# Altium footprint library Capacitor Electrolytic Axial.PcbLib: 19 footprints (part 1 of 2)
Each footprint in its own frame and in the unit in brackets; x right, y up, seen from the top. Pads: shape width x height; smd on the part's side, far side on the other; paste and mask are expansions set on the pad; w line width, h text height; cw(c..) or ccw(c..) is an arc to the next point about the centre after c.
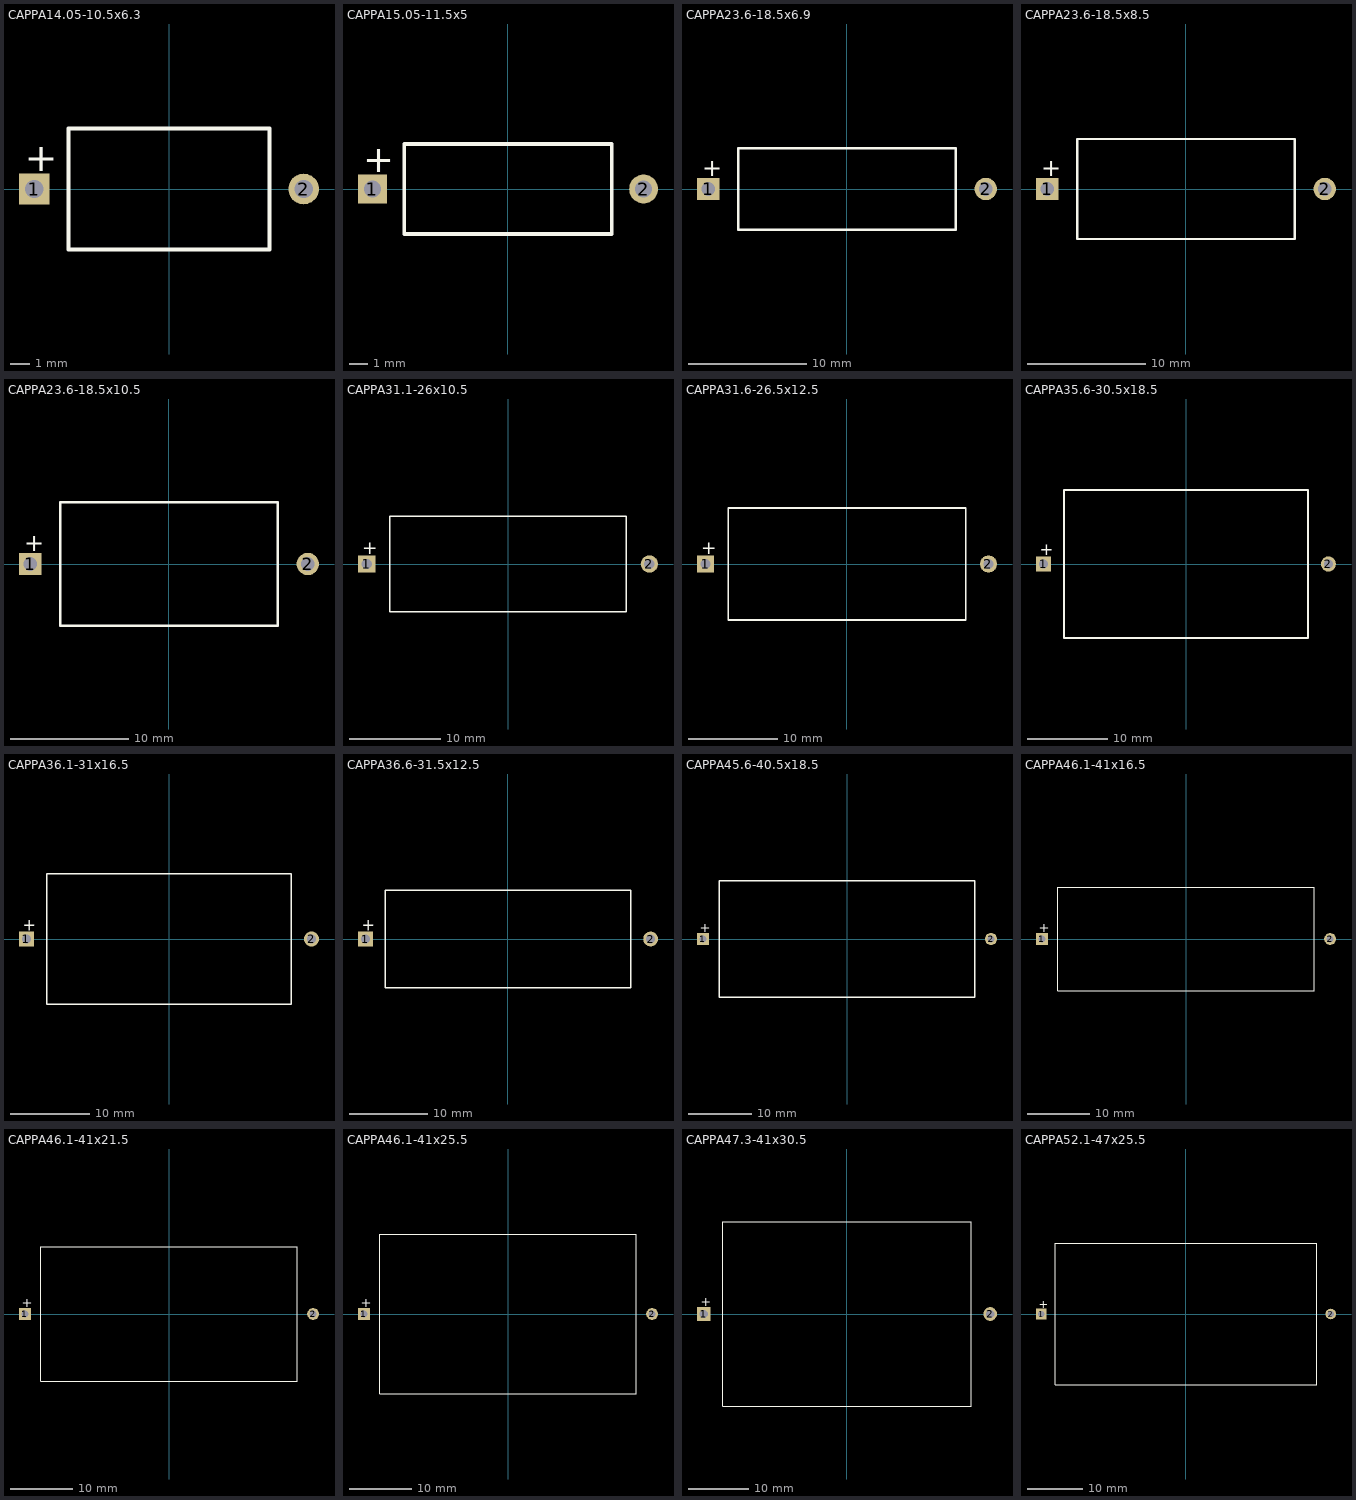
[diagram p0: the footprints below, top view; thin cyan lines are the x and y axes]

## CAPPA14.05-10.5x6.3 [mm] "Capacitor, Electrolytic, Axial; Body 10.5 x 6.3 mm (LxDia. max), Lead Dia. 0.6 mm (typ)"
height 6.3
pads (2):
  rect 1.6x1.6 hole 0.95: 1(-7.025,0)
  round 1.6 hole 0.95: 2(7.025,0)
Top Overlay:
  lines w0.2: -5.25,-3.15 5.25,-3.15 5.25,3.15 -5.25,3.15 -5.25,-3.15
  text "+" at -7.525,0.925 h1.5

## CAPPA15.05-11.5x5 [mm] "Capacitor, Electrolytic, Axial; Body 11.5 x 5 mm (LxDia. max), Lead Dia. 0.6 mm (typ)"
height 5
pads (2):
  rect 1.6x1.6 hole 0.95: 1(-7.525,0)
  round 1.6 hole 0.95: 2(7.525,0)
Top Overlay:
  lines w0.2: -5.75,-2.5 -5.75,2.5 5.75,2.5 5.75,-2.5 -5.75,-2.5
  text "+" at -8.025,0.925 h1.5

## CAPPA23.6-18.5x6.9 [mm] "Capacitor, Electrolytic, Axial; Body 18.5 x 6.9 mm (LxDia. max), Lead Dia. 0.8 mm (typ)"
height 6.9
pads (2):
  rect 1.9x1.9 hole 1.15: 1(-11.8,0)
  round 1.9 hole 1.15: 2(11.8,0)
Top Overlay:
  lines w0.2: -9.25,-3.45 -9.25,3.45 9.25,3.45 9.25,-3.45 -9.25,-3.45
  text "+" at -12.3,1.075 h1.5

## CAPPA23.6-18.5x8.5 [mm] "Capacitor, Electrolytic, Axial; Body 18.5 x 8.5 mm (LxDia. max), Lead Dia. 0.8 mm (typ)"
height 8.5
pads (2):
  rect 1.9x1.9 hole 1.15: 1(-11.8,0)
  round 1.9 hole 1.15: 2(11.8,0)
Top Overlay:
  lines w0.2: -9.25,-4.25 9.25,-4.25 9.25,4.25 -9.25,4.25 -9.25,-4.25
  text "+" at -12.3,1.075 h1.5

## CAPPA23.6-18.5x10.5 [mm] "Capacitor, Electrolytic, Axial; Body 18.5 x 10.5 mm (LxDia. max), Lead Dia. 0.8 mm (typ)"
height 10.5
pads (2):
  rect 1.9x1.9 hole 1.15: 1(-11.8,0)
  round 1.9 hole 1.15: 2(11.8,0)
Top Overlay:
  lines w0.2: -9.25,-5.25 -9.25,5.25 9.25,5.25 9.25,-5.25 -9.25,-5.25
  text "+" at -12.3,1.075 h1.5

## CAPPA31.1-26x10.5 [mm] "Capacitor, Electrolytic, Axial; Body 26 x 10.5 mm (LxDia. max), Lead Dia. 0.8 mm (typ)"
height 10.5
pads (2):
  rect 1.9x1.9 hole 1.15: 1(-15.55,0)
  round 1.9 hole 1.15: 2(15.55,0)
Top Overlay:
  lines w0.2: -13,-5.25 -13,5.25 13,5.25 13,-5.25 -13,-5.25
  text "+" at -16.05,1.075 h1.5

## CAPPA31.6-26.5x12.5 [mm] "Capacitor, Electrolytic, Axial; Body 26.5 x 12.5 mm (LxDia. max), Lead Dia. 0.8 mm (typ)"
height 12.5
pads (2):
  rect 1.9x1.9 hole 1.15: 1(-15.8,0)
  round 1.9 hole 1.15: 2(15.8,0)
Top Overlay:
  lines w0.2: -13.25,-6.25 13.25,-6.25 13.25,6.25 -13.25,6.25 -13.25,-6.25
  text "+" at -16.3,1.075 h1.5

## CAPPA35.6-30.5x18.5 [mm] "Capacitor, Electrolytic, Axial; Body 30.5 x 18.5 mm (LxDia. max), Lead Dia. 0.8 mm (typ)"
height 18.5
pads (2):
  rect 1.9x1.9 hole 1.15: 1(-17.8,0)
  round 1.9 hole 1.15: 2(17.8,0)
Top Overlay:
  lines w0.2: -15.25,-9.25 -15.25,9.25 15.25,9.25 15.25,-9.25 -15.25,-9.25
  text "+" at -18.3,1.075 h1.5

## CAPPA36.1-31x16.5 [mm] "Capacitor, Electrolytic, Axial; Body 31 x 16.5 mm (LxDia. max), Lead Dia. 0.8 mm (typ)"
height 16.5
pads (2):
  rect 1.9x1.9 hole 1.15: 1(-18.05,0)
  round 1.9 hole 1.15: 2(18.05,0)
Top Overlay:
  lines w0.2: -15.5,-8.25 -15.5,8.25 15.5,8.25 15.5,-8.25 -15.5,-8.25
  text "+" at -18.55,1.075 h1.5

## CAPPA36.6-31.5x12.5 [mm] "Capacitor, Electrolytic, Axial; Body 31.5 x 12.5 mm (LxDia. max), Lead Dia. 0.8 mm (typ)"
height 12.5
pads (2):
  rect 1.9x1.9 hole 1.15: 1(-18.3,0)
  round 1.9 hole 1.15: 2(18.3,0)
Top Overlay:
  lines w0.2: -15.75,-6.25 -15.75,6.25 15.75,6.25 15.75,-6.25 -15.75,-6.25
  text "+" at -18.8,1.075 h1.5

## CAPPA45.6-40.5x18.5 [mm] "Capacitor, Electrolytic, Axial; Body 40.5 x 18.5 mm (LxDia. max), Lead Dia. 0.8 mm (typ)"
height 18.5
pads (2):
  rect 1.9x1.9 hole 1.15: 1(-22.8,0)
  round 1.9 hole 1.15: 2(22.8,0)
Top Overlay:
  lines w0.2: -20.25,-9.25 -20.25,9.25 20.25,9.25 20.25,-9.25 -20.25,-9.25
  text "+" at -23.3,1.075 h1.5

## CAPPA46.1-41x16.5 [mm] "Capacitor, Electrolytic, Axial; Body 41 x 16.5 mm (LxDia. max), Lead Dia. 0.8 mm (typ)"
height 16.5
pads (2):
  rect 1.9x1.9 hole 1.15: 1(-23.05,0)
  round 1.9 hole 1.15: 2(23.05,0)
Top Overlay:
  lines w0.2: -20.5,-8.25 -20.5,8.25 20.5,8.25 20.5,-8.25 -20.5,-8.25
  text "+" at -23.55,1.075 h1.5

## CAPPA46.1-41x21.5 [mm] "Capacitor, Electrolytic, Axial; Body 41 x 21.5 mm (LxDia. max), Lead Dia. 0.8 mm (typ)"
height 21.5
pads (2):
  rect 1.9x1.9 hole 1.15: 1(-23.05,0)
  round 1.9 hole 1.15: 2(23.05,0)
Top Overlay:
  lines w0.2: -20.5,-10.75 -20.5,10.75 20.5,10.75 20.5,-10.75 -20.5,-10.75
  text "+" at -23.55,1.075 h1.5

## CAPPA46.1-41x25.5 [mm] "Capacitor, Electrolytic, Axial; Body 41 x 25.5 mm (LxDia. max), Lead Dia. 0.8 mm (typ)"
height 25.5
pads (2):
  rect 1.9x1.9 hole 1.15: 1(-23.05,0)
  round 1.9 hole 1.15: 2(23.05,0)
Top Overlay:
  lines w0.2: -20.5,-12.75 -20.5,12.75 20.5,12.75 20.5,-12.75 -20.5,-12.75
  text "+" at -23.55,1.075 h1.5

## CAPPA47.3-41x30.5 [mm] "Capacitor, Electrolytic, Axial; Body 41 x 30.5 mm (LxDia. max), Lead Dia. 1 mm (typ)"
height 30.5
pads (2):
  rect 2.25x2.25 hole 1.35: 1(-23.65,0)
  round 2.25 hole 1.35: 2(23.65,0)
Top Overlay:
  lines w0.2: -20.5,-15.25 -20.5,15.25 20.5,15.25 20.5,-15.25 -20.5,-15.25
  text "+" at -24.15,1.25 h1.5

## CAPPA52.1-47x25.5 [mm] "Capacitor, Electrolytic, Axial; Body 47 x 25.5 mm (LxDia. max), Lead Dia. 0.8 mm (typ)"
height 25.5
pads (2):
  rect 1.9x1.9 hole 1.15: 1(-26.05,0)
  round 1.9 hole 1.15: 2(26.05,0)
Top Overlay:
  lines w0.2: -23.5,-12.75 23.5,-12.75 23.5,12.75 -23.5,12.75 -23.5,-12.75
  text "+" at -26.55,1.075 h1.5